# EAGLE library part LPC1769 (library nxp)
32-bit ARM Cortex-M3 microcontroller; up to 512 kB flash and 64 kB SRAM with Ethernet, USB 2.0 Host/Device/OTG, CAN The LPC1769/68/67/66/65/64/63 are ARM Cortex-M3 based microcontrollers for embedded applications featuring a high level of integration and low power consumption. The ARM Cortex-M3 is a next generation core that offers system enhancements such as enhanced debug features and a higher level of support block integration. The LPC1768/67/66/65/64/63 operate at CPU frequencies of up to 100 MHz. The LPC1769 operates at CPU frequencies of up to 120 MHz. The ARM Cortex-M3 CPU incorporates a 3-stage pipeline and uses a Harvard architecture with separate local instruction and data buses as well as a third bus for peripherals. The ARM Cortex-M3 CPU also includes an internal prefetch unit that supports speculative branching. The peripheral complement of the LPC1769/68/67/66/65/64/63 includes up to 512 kB of flash memory, up to 64 kB of data memory, Ethernet MAC, USB Device/Host/OTG interface, 8-channel general purpose DMA controller, 4 UARTs, 2 CAN channels, 2 SSP controllers, SPI interface, 3 I2C-bus interfaces, 2-input plus 2-output I2S-bus interface, 8-channel 12-bit ADC, 10-bit DAC, motor control PWM, Quadrature Encoder interface, four general purpose timers, 6-output general purpose PWM, ultra-low power Real-Time Clock (RTC) with separate battery supply, and up to 70 general purpose I/O pins. The LPC1769/68/67/66/65/64/63 are pin-compatible to the 100-pin LPC236x ARM7-based microcontroller series.
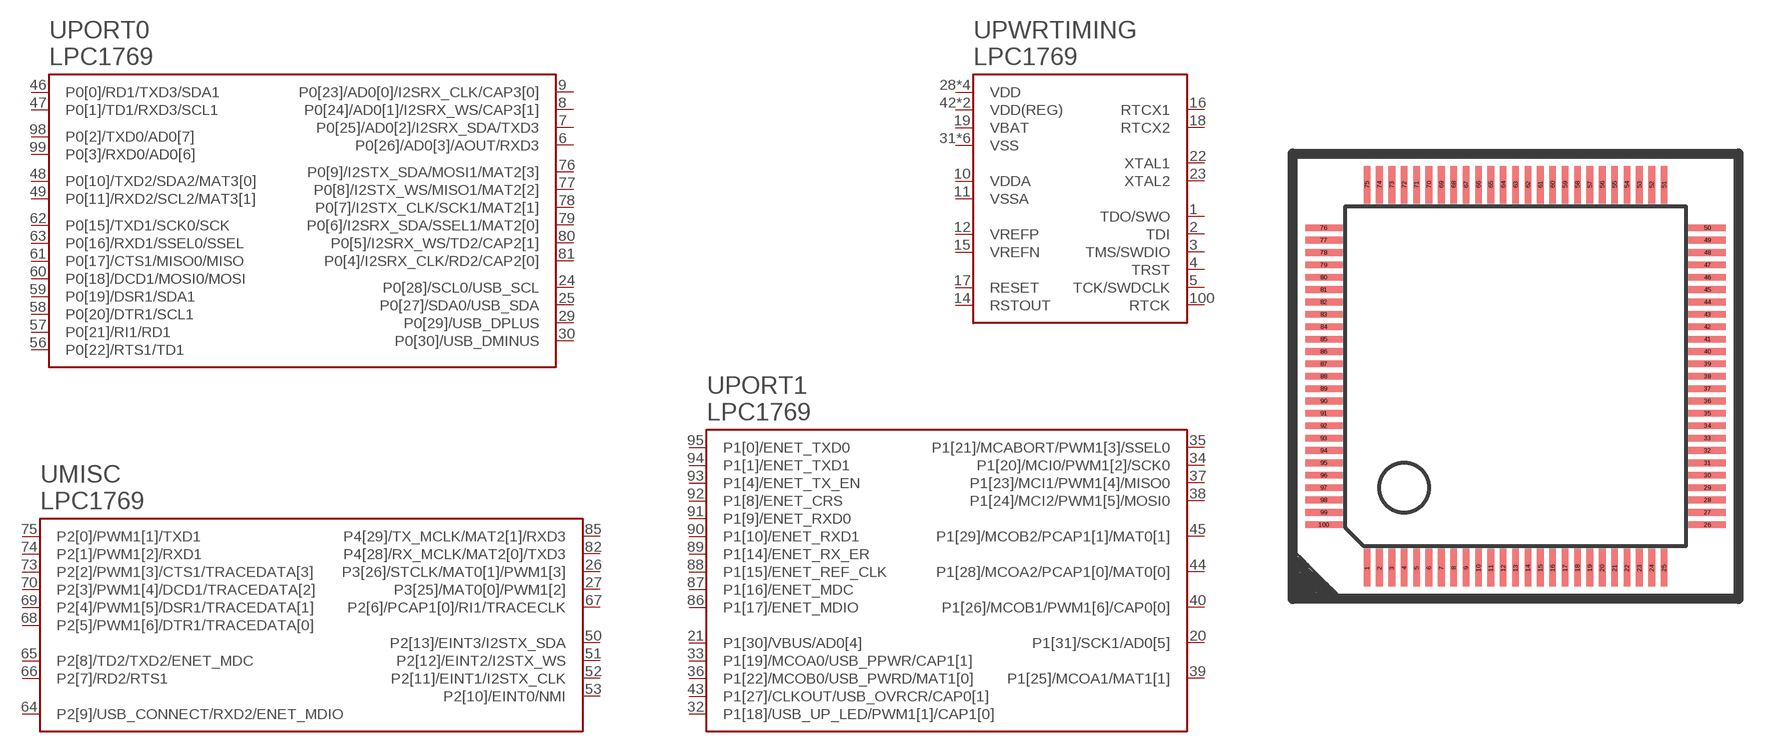
[diagram p1: symbol with the pads of LQFP100-14X14; footprint LQFP100-14X14]

Designator prefix U; gates PWRTIMING=LPC1769-PWRTIMING PORT0=LPC1769-PORT0 PORT1=LPC1769-PORT1 MISC=LPC1769-MISC

## LPC1769  [LQFP100-14X14]
1  PWRTIMING:TDO/SWO
2  PWRTIMING:TDI
3  PWRTIMING:TMS/SWDIO
4  PWRTIMING:TRST
5  PWRTIMING:TCK/SWDCLK
6  PORT0:P0[26]/AD0[3]/AOUT/RXD3
7  PORT0:P0[25]/AD0[2]/I2SRX_SDA/TXD3
8  PORT0:P0[24]/AD0[1]/I2SRX_WS/CAP3[1]
9  PORT0:P0[23]/AD0[0]/I2SRX_CLK/CAP3[0]
10  PWRTIMING:VDDA
11  PWRTIMING:VSSA
12  PWRTIMING:VREFP
14  PWRTIMING:RSTOUT
15  PWRTIMING:VREFN
16  PWRTIMING:RTCX1
17  PWRTIMING:RESET
18  PWRTIMING:RTCX2
19  PWRTIMING:VBAT
20  PORT1:P1[31]/SCK1/AD0[5]
21  PORT1:P1[30]/VBUS/AD0[4]
22  PWRTIMING:XTAL1
23  PWRTIMING:XTAL2
24  PORT0:P0[28]/SCL0/USB_SCL
25  PORT0:P0[27]/SDA0/USB_SDA
26  MISC:P3[26]/STCLK/MAT0[1]/PWM1[3]
27  MISC:P3[25]/MAT0[0]/PWM1[2]
28  PWRTIMING:VDD
29  PORT0:P0[29]/USB_DPLUS
30  PORT0:P0[30]/USB_DMINUS
31  PWRTIMING:VSS
32  PORT1:P1[18]/USB_UP_LED/PWM1[1]/CAP1[0]
33  PORT1:P1[19]/MCOA0/USB_PPWR/CAP1[1]
34  PORT1:P1[20]/MCI0/PWM1[2]/SCK0
35  PORT1:P1[21]/MCABORT/PWM1[3]/SSEL0
36  PORT1:P1[22]/MCOB0/USB_PWRD/MAT1[0]
37  PORT1:P1[23]/MCI1/PWM1[4]/MISO0
38  PORT1:P1[24]/MCI2/PWM1[5]/MOSI0
39  PORT1:P1[25]/MCOA1/MAT1[1]
40  PORT1:P1[26]/MCOB1/PWM1[6]/CAP0[0]
41  PWRTIMING:VSS
42  PWRTIMING:VDD(REG)
43  PORT1:P1[27]/CLKOUT/USB_OVRCR/CAP0[1]
44  PORT1:P1[28]/MCOA2/PCAP1[0]/MAT0[0]
45  PORT1:P1[29]/MCOB2/PCAP1[1]/MAT0[1]
46  PORT0:P0[0]/RD1/TXD3/SDA1
47  PORT0:P0[1]/TD1/RXD3/SCL1
48  PORT0:P0[10]/TXD2/SDA2/MAT3[0]
49  PORT0:P0[11]/RXD2/SCL2/MAT3[1]
50  MISC:P2[13]/EINT3/I2STX_SDA
51  MISC:P2[12]/EINT2/I2STX_WS
52  MISC:P2[11]/EINT1/I2STX_CLK
53  MISC:P2[10]/EINT0/NMI
54  PWRTIMING:VDD
55  PWRTIMING:VSS
56  PORT0:P0[22]/RTS1/TD1
57  PORT0:P0[21]/RI1/RD1
58  PORT0:P0[20]/DTR1/SCL1
59  PORT0:P0[19]/DSR1/SDA1
60  PORT0:P0[18]/DCD1/MOSI0/MOSI
61  PORT0:P0[17]/CTS1/MISO0/MISO
62  PORT0:P0[15]/TXD1/SCK0/SCK
63  PORT0:P0[16]/RXD1/SSEL0/SSEL
64  MISC:P2[9]/USB_CONNECT/RXD2/ENET_MDIO
65  MISC:P2[8]/TD2/TXD2/ENET_MDC
66  MISC:P2[7]/RD2/RTS1
67  MISC:P2[6]/PCAP1[0]/RI1/TRACECLK
68  MISC:P2[5]/PWM1[6]/DTR1/TRACEDATA[0]
69  MISC:P2[4]/PWM1[5]/DSR1/TRACEDATA[1]
70  MISC:P2[3]/PWM1[4]/DCD1/TRACEDATA[2]
71  PWRTIMING:VDD
72  PWRTIMING:VSS
73  MISC:P2[2]/PWM1[3]/CTS1/TRACEDATA[3]
74  MISC:P2[1]/PWM1[2]/RXD1
75  MISC:P2[0]/PWM1[1]/TXD1
76  PORT0:P0[9]/I2STX_SDA/MOSI1/MAT2[3]
77  PORT0:P0[8]/I2STX_WS/MISO1/MAT2[2]
78  PORT0:P0[7]/I2STX_CLK/SCK1/MAT2[1]
79  PORT0:P0[6]/I2SRX_SDA/SSEL1/MAT2[0]
80  PORT0:P0[5]/I2SRX_WS/TD2/CAP2[1]
81  PORT0:P0[4]/I2SRX_CLK/RD2/CAP2[0]
82  MISC:P4[28]/RX_MCLK/MAT2[0]/TXD3
83  PWRTIMING:VSS
84  PWRTIMING:VDD(REG)
85  MISC:P4[29]/TX_MCLK/MAT2[1]/RXD3
86  PORT1:P1[17]/ENET_MDIO
87  PORT1:P1[16]/ENET_MDC
88  PORT1:P1[15]/ENET_REF_CLK
89  PORT1:P1[14]/ENET_RX_ER
90  PORT1:P1[10]/ENET_RXD1
91  PORT1:P1[9]/ENET_RXD0
92  PORT1:P1[8]/ENET_CRS
93  PORT1:P1[4]/ENET_TX_EN
94  PORT1:P1[1]/ENET_TXD1
95  PORT1:P1[0]/ENET_TXD0
96  PWRTIMING:VDD
97  PWRTIMING:VSS
98  PORT0:P0[2]/TXD0/AD0[7]
99  PORT0:P0[3]/RXD0/AD0[6]
100  PWRTIMING:RTCK

## Footprint LQFP100-14X14 (pad centres in mm)
plastic low profile quad flat package; 100 leads; body 14 x 14 x 1.4 mm
smd 0.27 x 1.5: 1 -6,-7.75; 2 -5.5,-7.75; 3 -5,-7.75; 4 -4.5,-7.75; 5 -4,-7.75; 6 -3.5,-7.75; 7 -3,-7.75; 8 -2.5,-7.75; 9 -2,-7.75; 10 -1.5,-7.75; 11 -1,-7.75; 12 -0.5,-7.75; 13 0,-7.75; 14 0.5,-7.75; 15 1,-7.75; 16 1.5,-7.75; 17 2,-7.75; 18 2.5,-7.75; 19 3,-7.75; 20 3.5,-7.75; 21 4,-7.75; 22 4.5,-7.75; 23 5,-7.75; 24 5.5,-7.75; 25 6,-7.75; 51 6,7.75; 52 5.5,7.75; 53 5,7.75; 54 4.5,7.75; 55 4,7.75; 56 3.5,7.75; 57 3,7.75; 58 2.5,7.75; 59 2,7.75; 60 1.5,7.75; 61 1,7.75; 62 0.5,7.75; 63 0,7.75; 64 -0.5,7.75; 65 -1,7.75; 66 -1.5,7.75; 67 -2,7.75; 68 -2.5,7.75; 69 -3,7.75; 70 -3.5,7.75; 71 -4,7.75; 72 -4.5,7.75; 73 -5,7.75; 74 -5.5,7.75; 75 -6,7.75
smd 1.5 x 0.27: 26 7.75,-6; 27 7.75,-5.5; 28 7.75,-5; 29 7.75,-4.5; 30 7.75,-4; 31 7.75,-3.5; 32 7.75,-3; 33 7.75,-2.5; 34 7.75,-2; 35 7.75,-1.5; 36 7.75,-1; 37 7.75,-0.5; 38 7.75,0; 39 7.75,0.5; 40 7.75,1; 41 7.75,1.5; 42 7.75,2; 43 7.75,2.5; 44 7.75,3; 45 7.75,3.5; 46 7.75,4; 47 7.75,4.5; 48 7.75,5; 49 7.75,5.5; 50 7.75,6; 76 -7.75,6; 77 -7.75,5.5; 78 -7.75,5; 79 -7.75,4.5; 80 -7.75,4; 81 -7.75,3.5; 82 -7.75,3; 83 -7.75,2.5; 84 -7.75,2; 85 -7.75,1.5; 86 -7.75,1; 87 -7.75,0.5; 88 -7.75,0; 89 -7.75,-0.5; 90 -7.75,-1; 91 -7.75,-1.5; 92 -7.75,-2; 93 -7.75,-2.5; 94 -7.75,-3; 95 -7.75,-3.5; 96 -7.75,-4; 97 -7.75,-4.5; 98 -7.75,-5; 99 -7.75,-5.5; 100 -7.75,-6